# Altium schematic symbol library MB0003A.01.A.1.SchLib: 1 symbol
Pins are listed as number, name and electrical type; pins without a type are passive.

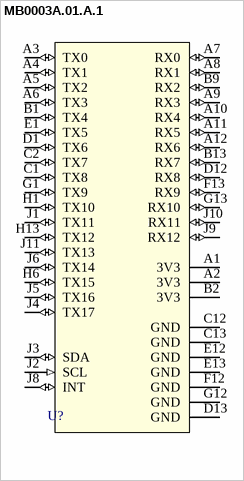
[diagram p0: symbol MB0003A.01.A.1]

## MB0003A.01.A.1
designator U?
pins: A1 3V3 (power), A2 3V3, A3 TX0 (io), A4 TX1 (io), A5 TX2 (io), A6 TX3 (io), A7 RX0 (io), A8 RX1 (io), A9 RX3 (io), A10 RX4 (io), A11 RX5 (io), A12 RX6 (io), B1 TX4 (io), B2 3V3 (power), B9 RX2 (io), B13 RX7 (io), C1 TX8 (io), C2 TX7 (io), C12 GND, C13 GND, D1 TX6 (io), D12 RX8 (io), D13 GND (power), E1 TX5 (io), E12 GND (power), E13 GND (power), F12 GND (power), F13 RX9 (io), G1 TX9 (io), G12 GND (power), G13 RX10 (io), H1 TX10 (io), H6 TX15 (io), H13 TX12 (io), J1 TX11 (io), J2 SCL (in), J3 SDA (io), J4 TX17 (io), J5 TX16 (io), J6 TX14 (io), J8 INT (io), J9 RX12 (io), J10 RX11 (io), J11 TX13 (io)